# Altium integrated library NSC Amplifier.IntLib: 719 symbols (part 13 of 19)
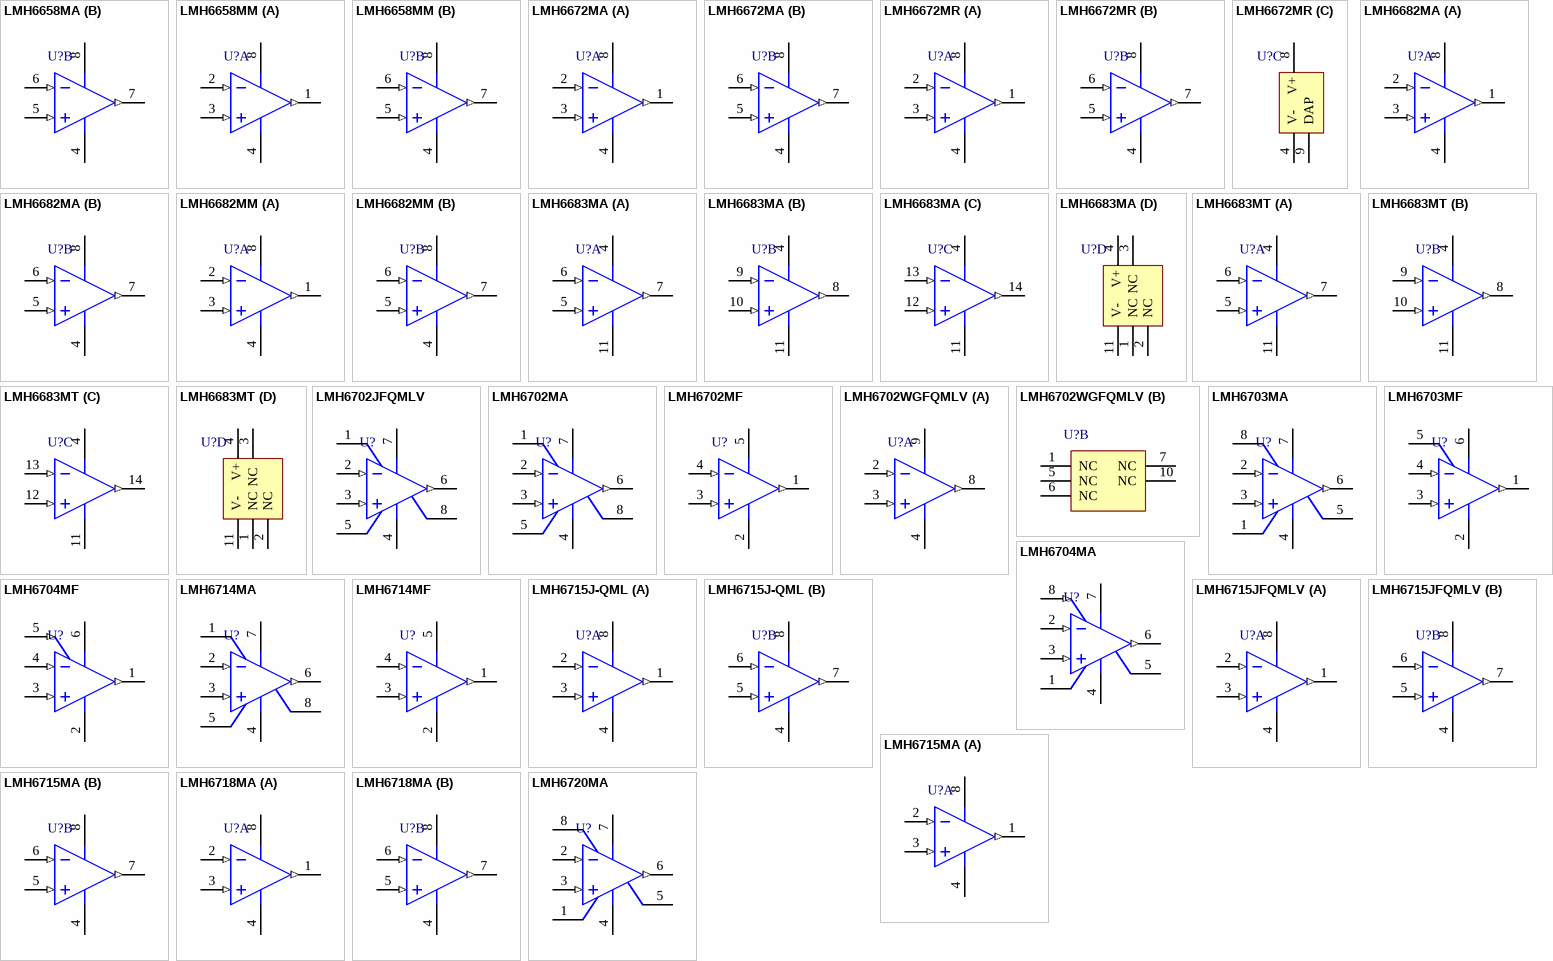
[diagram p50: symbols LMH6658MA to LMH6720MA]

## LMH6672MR
designator U?
Dual, High Output Current, High Speed Op Amp; PartNumber: LMH6672MR; Manufacturer: National Semiconductor; CompType: Amplifiers; PackageTopMarking: NSXYTT*LMH66*72MR; Published: 4-Dec-2008; LatestRevisionDate: 13-Jan-2009; LatestRevisionNote: Sim Model Added.; DatasheetVersion: Apr-2004; PackageVersion: revD, Dec-2007; PackageReference: MRA08A; Publisher: Altium Limited; PackageDescription: Molded, PSOP .193 x .154 x .058in, 8 Lead, .050in Pitch; RoHS: Y; PinCount: 8; DigiKeyPartNumber: LMH6672MR-ND; Code_JEDEC: MS-012-AA; ComponentLink1Description: LMH6672 Datasheet; ComponentLink1URL: http://www.national.com/ds/LM/LMH6672.pdf; ComponentLink2Description: LMH6672 Web Page; ComponentLink2URL: http://www.national.com/pf/LM/LMH6672.html; ComponentLink3Description: MRA08A Package Page; ComponentLink3URL: http://www.national.com/packaging/folders/mra08a.html
footprint MRA08A_N (SOIC, 8-Leads, Body 4.9x3.9mm, Pitch 1.27mm, Exposed Pad, IPC Medium Density)
footprint MRA08A_L (SOIC, 8-Leads, Body 4.9x3.9mm, Pitch 1.27mm, Exposed Pad, IPC High Density)
footprint MRA08A_M (SOIC, 8-Leads, Body 4.9x3.9mm, Pitch 1.27mm, Exposed Pad, IPC Low Density)
simulation model LMH6672 (SUBCKT)
pins on every part: 4 V- (power), 8 V+ (power)
part A pins: 1 OUTA (out), 2 INA- (in), 3 INA+ (in)
part B pins: 5 INB+ (in), 6 INB- (in), 7 OUTB (out)
part C pins: 9 DAP

## LMH6682MA
designator U?
190MHz Single Supply, Dual and Triple Operational Amplifiers; PartNumber: LMH6682MA; Manufacturer: National Semiconductor; PackageTopMarking: NSZXTT*LMH66*82MA; Published: 4-Dec-2008; DatasheetVersion: Nov-2002; PackageVersion: revL, Sep-2006; PackageReference: M08A; Publisher: Altium Limited; PackageDescription: SOIC Narrow, 4.9 x 3.9 x 1.45mm, 8 Lead, 1.27mm Pitch; CompType: Amplifiers; RoHS: Y; PinCount: 8; DigiKeyPartNumber: LMH6682MA-ND; Code_JEDEC: MS-012-AA; Code_IPC: SOIC127P600-8; ComponentLink1Description: LMH6682 Datasheet; ComponentLink1URL: http://www.national.com/ds/LM/LMH6682.pdf; ComponentLink2Description: LMH6682 Web Page; ComponentLink2URL: http://www.national.com/pf/LM/LMH6682.html; ComponentLink3Description: M08A Package Page; ComponentLink3URL: http://www.national.com/packaging/folders/m08a.html
footprint M08A_N (SOIC, 8-Leads, Body 4.9x3.9mm, Pitch 1.27mm, IPC Medium Density)
footprint M08A_L (SOIC, 8-Leads, Body 4.9x3.9mm, Pitch 1.27mm, IPC High Density)
footprint M08A_M (SOIC, 8-Leads, Body 4.9x3.9mm, Pitch 1.27mm, IPC Low Density)
pins on every part: 4 V- (power), 8 V+ (power)
part A pins: 1 OUTA (out), 2 INA- (in), 3 INA+ (in)
part B pins: 5 INB+ (in), 6 INB- (in), 7 OUTB (out)

## LMH6682MM
designator U?
190MHz Single Supply, Dual and Triple Operational Amplifiers; PartNumber: LMH6682MM; Manufacturer: National Semiconductor; PackageTopMarking: ZXTT*A90A; Published: 4-Dec-2008; DatasheetVersion: Nov-2002; PackageVersion: revF, Apr-2008; PackageReference: MUA08A; Publisher: Altium Limited; PackageDescription: MINI SOIC, .118 x .118 x .034in, 8 Lead, .0256in Pitch; CompType: Amplifiers; RoHS: Y; PinCount: 8; DigiKeyPartNumber: LMH6682MMCT-ND; Code_JEDEC: MO-187-AA; ComponentLink1Description: LMH6682 Datasheet; ComponentLink1URL: http://www.national.com/ds/LM/LMH6682.pdf; ComponentLink2Description: LMH6682 Web Page; ComponentLink2URL: http://www.national.com/pf/LM/LMH6682.html; ComponentLink3Description: MUA08A Package Page; ComponentLink3URL: http://www.national.com/packaging/folders/mua08a.html
footprint MUA08A_N (TSOP, 8-Leads, Body 3x3mm, Pitch 0.65mm, IPC Medium Density)
footprint MUA08A_L (TSOP, 8-Leads, Body 3x3mm, Pitch 0.65mm, IPC High Density)
footprint MUA08A_M (TSOP, 8-Leads, Body 3x3mm, Pitch 0.65mm, IPC Low Density)
pins on every part: 4 V- (power), 8 V+ (power)
part A pins: 1 OUTA (out), 2 INA- (in), 3 INA+ (in)
part B pins: 5 INB+ (in), 6 INB- (in), 7 OUTB (out)

## LMH6683MA
designator U?
190MHz Single Supply, Dual and Triple Operational Amplifiers; PartNumber: LMH6683MA; Manufacturer: National Semiconductor; PackageTopMarking: NSUZXYTT*LMH66*83MA; Published: 4-Dec-2008; DatasheetVersion: Nov-2002; PackageVersion: revJ, Jan-1996; PackageReference: M14A; Publisher: Altium Limited; PackageDescription: Molded Package S.O., .150in Wide, 14 Lead; CompType: Amplifiers; RoHS: Y; PinCount: 14; DigiKeyPartNumber: LMH6683MA-ND; Code_JEDEC: MS-012AB; Code_IPC: SOIC127P600-14; ComponentLink1Description: LMH6683 Datasheet; ComponentLink1URL: http://www.national.com/ds/LM/LMH6683.pdf; ComponentLink2Description: LMH6683 Web Page; ComponentLink2URL: http://www.national.com/pf/LM/LMH6683.html; ComponentLink3Description: M14A Package Page; ComponentLink3URL: http://www.national.com/packaging/folders/m14a.html
footprint M14A_N (SOIC, 14-Leads, Body 8.6x3.9mm, Pitch 1.27mm, IPC Medium Density)
footprint M14A_L (SOIC, 14-Leads, Body 8.6x3.9mm, Pitch 1.27mm, IPC High Density)
footprint M14A_M (SOIC, 14-Leads, Body 8.6x3.9mm, Pitch 1.27mm, IPC Low Density)
pins on every part: 4 V+ (power), 11 V- (power)
part A pins: 5 IN1+ (in), 6 IN1- (in), 7 OUT1 (out)
part B pins: 8 OUT2 (out), 9 IN2- (in), 10 IN2+ (in)
part C pins: 12 IN3+ (in), 13 IN3- (in), 14 OUT3 (out)
part D pins: 1 NC, 2 NC, 3 NC

## LMH6683MT
designator U?
190MHz Single Supply, Dual and Triple Operational Amplifiers; PartNumber: LMH6683MT; Manufacturer: National Semiconductor; PackageTopMarking: NSZXYTT*LMH66*83MT; Published: 4-Dec-2008; DatasheetVersion: Nov-2002; PackageVersion: revD, Jun-2003; PackageReference: MTC14; Publisher: Altium Limited; PackageDescription: Molded TSSOP, JEDEC, 5 x 4.4 x 0.9mm Body, 14 Lead, 0.65mm Pitch; CompType: Amplifiers; RoHS: Y; PinCount: 14; DigiKeyPartNumber: LMH6683MT-ND; Code_JEDEC: MO-153-AB-1; ComponentLink1Description: LMH6683 Datasheet; ComponentLink1URL: http://www.national.com/ds/LM/LMH6683.pdf; ComponentLink2Description: LMH6683 Web Page; ComponentLink2URL: http://www.national.com/pf/LM/LMH6683.html; ComponentLink3Description: MTC14 Package Page; ComponentLink3URL: http://www.national.com/packaging/folders/mtc14.html
footprint MTC14_N (TSOP, 14-Leads, Body 5x4.4mm, Pitch 0.65mm, IPC Medium Density)
footprint MTC14_L (TSOP, 14-Leads, Body 5x4.4mm, Pitch 0.65mm, IPC High Density)
footprint MTC14_M (TSOP, 14-Leads, Body 5x4.4mm, Pitch 0.65mm, IPC Low Density)
pins on every part: 4 V+ (power), 11 V- (power)
part A pins: 5 IN1+ (in), 6 IN1- (in), 7 OUT1 (out)
part B pins: 8 OUT2 (out), 9 IN2- (in), 10 IN2+ (in)
part C pins: 12 IN3+ (in), 13 IN3- (in), 14 OUT3 (out)
part D pins: 1 NC, 2 NC, 3 NC

## LMH6702JFQMLV
designator U?
1.7 GHz, Ultra Low Distortion, Wideband Op Amp; PartNumber: LMH6702JFQMLV; Manufacturer: National Semiconductor; CompType: Amplifiers; PackageTopMarking: NSZSSXXYYA*LMH6702JF*QV Q 5962F*0254601VPA; MilaeroCode: DXX; Published: 4-Dec-2008; DatasheetVersion: Nov-2005; PackageVersion: revM, Jul-2002; PackageReference: J08A; Publisher: Altium Limited; PackageDescription: Cerdip, .400 x .310in Body, 8 Lead, .300in Centers, .100in Pitch; RoHS: N; PinCount: 8; ComponentLink1Description: LMH6702QML Datasheet; ComponentLink1URL: http://www.national.com/ds/LM/LMH6702QML.pdf; ComponentLink2Description: LMH6702 Web Page; ComponentLink2URL: http://www.national.com/pf/LM/LMH6702.html; ComponentLink3Description: J08A Package Page; ComponentLink3URL: http://www.national.com/packaging/folders/j08a.html
footprint J08A (DIP, 8-Leads, Row Spacing 7.62mm, Pitch 2.54mm, Body 9.78x6.73mm)
pins: 1 NC, 2 IN- (in), 3 IN+ (in), 4 V- (power), 5 NC, 6 OUT (out), 7 V+ (power), 8 NC

## LMH6702MA
designator U?
1.7 GHz, Ultra Low Distortion, Wideband Op Amp; PartNumber: LMH6702MA; Manufacturer: National Semiconductor; CompType: Amplifiers; PackageTopMarking: NSZXTT*LMH67*02MA; Published: 4-Dec-2008; LatestRevisionDate: 13-Jan-2009; LatestRevisionNote: Sim Model Added.; DatasheetVersion: May-2005; PackageVersion: revL, Sep-2006; PackageReference: M08A; Publisher: Altium Limited; PackageDescription: SOIC Narrow, 4.9 x 3.9 x 1.45mm, 8 Lead, 1.27mm Pitch; RoHS: O; PinCount: 8; DigiKeyPartNumber: LMH6702MA-ND; Code_JEDEC: MS-012-AA; Code_IPC: SOIC127P600-8; ComponentLink1Description: LMH6702 Datasheet; ComponentLink1URL: http://www.national.com/ds/LM/LMH6702.pdf; ComponentLink2Description: LMH6702 Web Page; ComponentLink2URL: http://www.national.com/pf/LM/LMH6702.html; ComponentLink3Description: M08A Package Page; ComponentLink3URL: http://www.national.com/packaging/folders/m08a.html
footprint M08A_N (SOIC, 8-Leads, Body 4.9x3.9mm, Pitch 1.27mm, IPC Medium Density)
footprint M08A_L (SOIC, 8-Leads, Body 4.9x3.9mm, Pitch 1.27mm, IPC High Density)
footprint M08A_M (SOIC, 8-Leads, Body 4.9x3.9mm, Pitch 1.27mm, IPC Low Density)
simulation model LMH6702 (SUBCKT)
pins: 1 NC, 2 IN- (in), 3 IN+ (in), 4 V- (power), 5 NC, 6 OUT (out), 7 V+ (power), 8 NC

## LMH6702MF
designator U?
1.7 GHz, Ultra Low Distortion, Wideband Op Amp; PartNumber: LMH6702MF; Manufacturer: National Semiconductor; CompType: Amplifiers; PackageTopMarking: A83A*XTT; Published: 4-Dec-2008; LatestRevisionDate: 13-Jan-2009; LatestRevisionNote: Sim Model Added.; DatasheetVersion: May-2005; PackageVersion: revD, Aug-2008; PackageReference: MF05A; Publisher: Altium Limited; PackageDescription: Molded SOT-23, .115 x .063 x .040 in Body, 5 Lead, .0375 in Pitch; RoHS: O; PinCount: 5; DigiKeyPartNumber: LMH6702MFCT-ND; Code_IPC: SOT23-5; ComponentLink1Description: LMH6702 Datasheet; ComponentLink1URL: http://www.national.com/ds/LM/LMH6702.pdf; ComponentLink2Description: LMH6702 Web Page; ComponentLink2URL: http://www.national.com/pf/LM/LMH6702.html; ComponentLink3Description: MF05A Package Page; ComponentLink3URL: http://www.national.com/packaging/folders/mf05a.html
footprint MF05A_N (SOT23, 5-Leads, Body 2.9x1.6mm, Pitch 0.95mm, Lead Span 2.8mm, IPC Medium Density)
footprint MF05A_L (SOT23, 5-Leads, Body 2.9x1.6mm, Pitch 0.95mm, Lead Span 2.8mm, IPC High Density)
footprint MF05A_M (SOT23, 5-Leads, Body 2.9x1.6mm, Pitch 0.95mm, Lead Span 2.8mm, IPC Low Density)
simulation model LMH6702 (SUBCKT)
pins: 1 OUT (out), 2 V- (power), 3 IN+ (in), 4 IN- (in), 5 V+ (power)

## LMH6702WGFQMLV
designator U?
1.7 GHz, Ultra Low Distortion, Wideband Op Amp; PartNumber: LMH6702WGFQMLV; Manufacturer: National Semiconductor; CompType: Amplifiers; PackageTopMarking: NS5962F02*54601VZA*LMH6702*WGFQV Q*ZSSXXYYA; MilaeroCode: DXX; Published: 4-Dec-2008; DatasheetVersion: Nov-2005; PackageVersion: revF, Oct-2008; PackageReference: WG10A; Publisher: Altium Limited; PackageDescription: Cerpack, .270 x .241 x .070in, 10 Lead, .050in Pitch, Gull Wing; RoHS: N; PinCount: 10; ComponentLink1Description: LMH6702QML Datasheet; ComponentLink1URL: http://www.national.com/ds/LM/LMH6702QML.pdf; ComponentLink2Description: LMH6702 Web Page; ComponentLink2URL: http://www.national.com/pf/LM/LMH6702.html; ComponentLink3Description: WG10A Package Page; ComponentLink3URL: http://www.national.com/packaging/folders/wg10a.html
footprint WG10A_N (CERPACK, 10-Leads, Body 6.9x6.3mm, Pitch 1.27mm, IPC Medium Density)
footprint WG10A_L (CERPACK, 10-Leads, Body 6.9x6.3mm, Pitch 1.27mm, IPC High Density)
footprint WG10A_M (CERPACK, 10-Leads, Body 6.9x6.3mm, Pitch 1.27mm, IPC Low Density)
part A pins: 2 IN- (in), 3 IN+ (in), 4 V- (power), 8 OUT (out), 9 V+ (power)
part B pins: 1 NC, 5 NC, 6 NC, 7 NC, 10 NC

## LMH6703MA
designator U?
1.2 GHz, Low Distortion Op Amp with Shutdown; PartNumber: LMH6703MA; Manufacturer: National Semiconductor; CompType: Amplifiers; PackageTopMarking: NSZXTT*LMH67*03MA; Published: 4-Dec-2008; LatestRevisionDate: 13-Jan-2009; LatestRevisionNote: Sim Model Added.; DatasheetVersion: May-2005; PackageVersion: revL, Sep-2006; PackageReference: M08A; Publisher: Altium Limited; PackageDescription: SOIC Narrow, 4.9 x 3.9 x 1.45mm, 8 Lead, 1.27mm Pitch; RoHS: Y; PinCount: 8; DigiKeyPartNumber: LMH6703MA-ND; Code_JEDEC: MS-012-AA; Code_IPC: SOIC127P600-8; ComponentLink1Description: LMH6703 Datasheet; ComponentLink1URL: http://www.national.com/ds/LM/LMH6703.pdf; ComponentLink2Description: LMH6703 Web Page; ComponentLink2URL: http://www.national.com/pf/LM/LMH6703.html; ComponentLink3Description: M08A Package Page; ComponentLink3URL: http://www.national.com/packaging/folders/m08a.html
footprint M08A_N (SOIC, 8-Leads, Body 4.9x3.9mm, Pitch 1.27mm, IPC Medium Density)
footprint M08A_L (SOIC, 8-Leads, Body 4.9x3.9mm, Pitch 1.27mm, IPC High Density)
footprint M08A_M (SOIC, 8-Leads, Body 4.9x3.9mm, Pitch 1.27mm, IPC Low Density)
simulation model LMH6703C (SUBCKT)
pins: 1 NC, 2 IN- (in), 3 IN+ (in), 4 V- (power), 5 NC, 6 OUT (out), 7 V+ (power), 8 ~{SD}

## LMH6703MF
designator U?
1.2 GHz, Low Distortion Op Amp with Shutdown; PartNumber: LMH6703MF; Manufacturer: National Semiconductor; CompType: Amplifiers; PackageTopMarking: AR1A*XTT; Published: 4-Dec-2008; LatestRevisionDate: 13-Jan-2009; LatestRevisionNote: Sim Model Added.; DatasheetVersion: May-2005; PackageVersion: revC, Sep-2005; PackageReference: MF06A; Publisher: Altium Limited; PackageDescription: Molded SOT-23, .115 x .063 x .040in Body, 6 Lead, .0375in in Pitch; RoHS: Y; PinCount: 6; DigiKeyPartNumber: LMH6703MFCT-ND; Code_JEDEC: MO-178-AB; Code_IPC: SOT26A-6; ComponentLink1Description: LMH6703 Datasheet; ComponentLink1URL: http://www.national.com/ds/LM/LMH6703.pdf; ComponentLink2Description: LMH6703 Web Page; ComponentLink2URL: http://www.national.com/pf/LM/LMH6703.html; ComponentLink3Description: MF06A Package Page; ComponentLink3URL: http://www.national.com/packaging/folders/mf06a.html
footprint MF06A_N (SOT23, 6-Leads, Body 2.9x1.6mm, Pitch 0.95mm, Lead Span 2.8mm, IPC Medium Density)
footprint MF06A_L (SOT23, 6-Leads, Body 2.9x1.6mm, Pitch 0.95mm, Lead Span 2.8mm, IPC High Density)
footprint MF06A_M (SOT23, 6-Leads, Body 2.9x1.6mm, Pitch 0.95mm, Lead Span 2.8mm, IPC Low Density)
simulation model LMH6703T (SUBCKT)
pins: 1 OUT (out), 2 V- (power), 3 IN+ (in), 4 IN- (in), 5 ~{SD}, 6 V+ (power)

## LMH6704MA
designator U?
650 MHz Selectable Gain Buffer with Disable; PartNumber: LMH6704MA; Manufacturer: National Semiconductor; CompType: Amplifiers; PackageTopMarking: NSZXTT*LMH67*04MA; Published: 4-Dec-2008; DatasheetVersion: Sep-2006; PackageVersion: revL, Sep-2006; PackageReference: M08A; Publisher: Altium Limited; PackageDescription: SOIC Narrow, 4.9 x 3.9 x 1.45mm, 8 Lead, 1.27mm Pitch; RoHS: Y; PinCount: 8; DigiKeyPartNumber: LMH6704MA-ND; Code_JEDEC: MS-012-AA; Code_IPC: SOIC127P600-8; ComponentLink1Description: LMH6704 Datasheet; ComponentLink1URL: http://www.national.com/ds/LM/LMH6704.pdf; ComponentLink2Description: LMH6704 Web Page; ComponentLink2URL: http://www.national.com/pf/LM/LMH6704.html; ComponentLink3Description: M08A Package Page; ComponentLink3URL: http://www.national.com/packaging/folders/m08a.html
footprint M08A_N (SOIC, 8-Leads, Body 4.9x3.9mm, Pitch 1.27mm, IPC Medium Density)
footprint M08A_L (SOIC, 8-Leads, Body 4.9x3.9mm, Pitch 1.27mm, IPC High Density)
footprint M08A_M (SOIC, 8-Leads, Body 4.9x3.9mm, Pitch 1.27mm, IPC Low Density)
pins: 1 NC, 2 IN- (in), 3 IN+ (in), 4 VS- (power), 5 NC, 6 OUT (out), 7 VS+ (power), 8 ~{DIS} (in)

## LMH6704MF
designator U?
650 MHz Selectable Gain Buffer with Disable; PartNumber: LMH6704MF; Manufacturer: National Semiconductor; CompType: Amplifiers; PackageTopMarking: B07A*XTT; Published: 4-Dec-2008; DatasheetVersion: Sep-2006; PackageVersion: revC, Sep-2005; PackageReference: MF06A; Publisher: Altium Limited; PackageDescription: Molded SOT-23, .115 x .063 x .040in Body, 6 Lead, .0375in in Pitch; RoHS: O; PinCount: 6; DigiKeyPartNumber: LMH6704MFCT-ND; Code_JEDEC: MO-178-AB; Code_IPC: SOT26A-6; ComponentLink1Description: LMH6704 Datasheet; ComponentLink1URL: http://www.national.com/ds/LM/LMH6704.pdf; ComponentLink2Description: LMH6704 Web Page; ComponentLink2URL: http://www.national.com/pf/LM/LMH6704.html; ComponentLink3Description: MF06A Package Page; ComponentLink3URL: http://www.national.com/packaging/folders/mf06a.html
footprint MF06A_N (SOT23, 6-Leads, Body 2.9x1.6mm, Pitch 0.95mm, Lead Span 2.8mm, IPC Medium Density)
footprint MF06A_L (SOT23, 6-Leads, Body 2.9x1.6mm, Pitch 0.95mm, Lead Span 2.8mm, IPC High Density)
footprint MF06A_M (SOT23, 6-Leads, Body 2.9x1.6mm, Pitch 0.95mm, Lead Span 2.8mm, IPC Low Density)
pins: 1 OUT (out), 2 VS- (power), 3 IN+ (in), 4 IN- (in), 5 ~{DIS} (in), 6 VS+ (power)

## LMH6714MA
designator U?
Single Wideband Video Op Amp; PartNumber: LMH6714MA; Manufacturer: National Semiconductor; CompType: Amplifiers; PackageTopMarking: NSZXTT*LMH67*14MA; Published: 4-Dec-2008; LatestRevisionDate: 13-Jan-2009; LatestRevisionNote: Sim Model Added.; DatasheetVersion: Oct-2008; PackageVersion: revL, Sep-2006; PackageReference: M08A; Publisher: Altium Limited; PackageDescription: SOIC Narrow, 4.9 x 3.9 x 1.45mm, 8 Lead, 1.27mm Pitch; RoHS: O; PinCount: 8; DigiKeyPartNumber: LMH6714MA-ND; Code_JEDEC: MS-012-AA; Code_IPC: SOIC127P600-8; ComponentLink1Description: LMH6714 Datasheet; ComponentLink1URL: http://www.national.com/ds/LM/LMH6714.pdf; ComponentLink2Description: LMH6714 Web Page; ComponentLink2URL: http://www.national.com/pf/LM/LMH6714.html; ComponentLink3Description: M08A Package Page; ComponentLink3URL: http://www.national.com/packaging/folders/m08a.html
footprint M08A_N (SOIC, 8-Leads, Body 4.9x3.9mm, Pitch 1.27mm, IPC Medium Density)
footprint M08A_L (SOIC, 8-Leads, Body 4.9x3.9mm, Pitch 1.27mm, IPC High Density)
footprint M08A_M (SOIC, 8-Leads, Body 4.9x3.9mm, Pitch 1.27mm, IPC Low Density)
simulation model LMH6714 (SUBCKT)
pins: 1 NC, 2 IN- (in), 3 IN+ (in), 4 V- (power), 5 NC, 6 OUT (out), 7 V+ (power), 8 NC

## LMH6714MF
designator U?
Single Wideband Video Op Amp; PartNumber: LMH6714MF; Manufacturer: National Semiconductor; CompType: Amplifiers; PackageTopMarking: A95A*XTT; Published: 4-Dec-2008; LatestRevisionDate: 13-Jan-2009; LatestRevisionNote: Sim Model Added.; DatasheetVersion: Oct-2008; PackageVersion: revD, Aug-2008; PackageReference: MF05A; Publisher: Altium Limited; PackageDescription: Molded SOT-23, .115 x .063 x .040 in Body, 5 Lead, .0375 in Pitch; RoHS: O; PinCount: 5; DigiKeyPartNumber: LMH6714MFCT-ND; Code_IPC: SOT23-5; ComponentLink1Description: LMH6714 Datasheet; ComponentLink1URL: http://www.national.com/ds/LM/LMH6714.pdf; ComponentLink2Description: LMH6714 Web Page; ComponentLink2URL: http://www.national.com/pf/LM/LMH6714.html; ComponentLink3Description: MF05A Package Page; ComponentLink3URL: http://www.national.com/packaging/folders/mf05a.html
footprint MF05A_N (SOT23, 5-Leads, Body 2.9x1.6mm, Pitch 0.95mm, Lead Span 2.8mm, IPC Medium Density)
footprint MF05A_L (SOT23, 5-Leads, Body 2.9x1.6mm, Pitch 0.95mm, Lead Span 2.8mm, IPC High Density)
footprint MF05A_M (SOT23, 5-Leads, Body 2.9x1.6mm, Pitch 0.95mm, Lead Span 2.8mm, IPC Low Density)
simulation model LMH6714 (SUBCKT)
pins: 1 OUT (out), 2 V- (power), 3 IN+ (in), 4 IN- (in), 5 V+ (power)

## LMH6715J-QML
designator U?
Dual Wideband Video Op Amp; PartNumber: LMH6715J-QML; Manufacturer: National Semiconductor; CompType: Amplifiers; PackageTopMarking: NSZSSXXYYA*LMH6715J-*QML 5962-*0254701QPA Q; MilaeroCode: B88; Published: 4-Dec-2008; LatestRevisionDate: 13-Jan-2009; LatestRevisionNote: Sim Model Added.; DatasheetVersion: Jan-2003; PackageVersion: revM, Jul-2002; PackageReference: J08A; Publisher: Altium Limited; PackageDescription: Cerdip, .400 x .310in Body, 8 Lead, .300in Centers, .100in Pitch; RoHS: N; PinCount: 8; ComponentLink1Description: LMH6715 Datasheet; ComponentLink1URL: http://www.national.com/ds/LM/LMH6715.pdf; ComponentLink2Description: LMH6715 Web Page; ComponentLink2URL: http://www.national.com/pf/LM/LMH6715.html; ComponentLink3Description: J08A Package Page; ComponentLink3URL: http://www.national.com/packaging/folders/j08a.html
footprint J08A (DIP, 8-Leads, Row Spacing 7.62mm, Pitch 2.54mm, Body 9.78x6.73mm)
simulation model LMH6715 (SUBCKT)
pins on every part: 4 V- (power), 8 V+ (power)
part A pins: 1 OUT1 (out), 2 IN1- (in), 3 IN1+ (in)
part B pins: 5 IN2+ (in), 6 IN2- (in), 7 OUT2 (out)

## LMH6715JFQMLV
designator U?
Dual Wideband Video Op Amp; PartNumber: LMH6715JFQMLV; Manufacturer: National Semiconductor; CompType: Amplifiers; PackageTopMarking: NSZSSXXYYA*LMH6715JF*QV Q 5962F*0254701VPA; MilaeroCode: DXX; Published: 4-Dec-2008; LatestRevisionDate: 13-Jan-2009; LatestRevisionNote: Sim Model Added.; DatasheetVersion: Jan-2003; PackageVersion: revM, Jul-2002; PackageReference: J08A; Publisher: Altium Limited; PackageDescription: Cerdip, .400 x .310in Body, 8 Lead, .300in Centers, .100in Pitch; RoHS: N; PinCount: 8; ComponentLink1Description: LMH6715 Datasheet; ComponentLink1URL: http://www.national.com/ds/LM/LMH6715.pdf; ComponentLink2Description: LMH6715 Web Page; ComponentLink2URL: http://www.national.com/pf/LM/LMH6715.html; ComponentLink3Description: J08A Package Page; ComponentLink3URL: http://www.national.com/packaging/folders/j08a.html
footprint J08A (DIP, 8-Leads, Row Spacing 7.62mm, Pitch 2.54mm, Body 9.78x6.73mm)
simulation model LMH6715 (SUBCKT)
pins on every part: 4 V- (power), 8 V+ (power)
part A pins: 1 OUT1 (out), 2 IN1- (in), 3 IN1+ (in)
part B pins: 5 IN2+ (in), 6 IN2- (in), 7 OUT2 (out)

## LMH6715MA
designator U?
Dual Wideband Video Op Amp; PartNumber: LMH6715MA; Manufacturer: National Semiconductor; CompType: Amplifiers; PackageTopMarking: NSZXTT*LMH67*15MA; Published: 4-Dec-2008; LatestRevisionDate: 13-Jan-2009; LatestRevisionNote: Sim Model Added.; DatasheetVersion: Jan-2003; PackageVersion: revL, Sep-2006; PackageReference: M08A; Publisher: Altium Limited; PackageDescription: SOIC Narrow, 4.9 x 3.9 x 1.45mm, 8 Lead, 1.27mm Pitch; RoHS: Y; PinCount: 8; DigiKeyPartNumber: LMH6715MA-ND; Code_JEDEC: MS-012-AA; Code_IPC: SOIC127P600-8; ComponentLink1Description: LMH6715 Datasheet; ComponentLink1URL: http://www.national.com/ds/LM/LMH6715.pdf; ComponentLink2Description: LMH6715 Web Page; ComponentLink2URL: http://www.national.com/pf/LM/LMH6715.html; ComponentLink3Description: M08A Package Page; ComponentLink3URL: http://www.national.com/packaging/folders/m08a.html
footprint M08A_N (SOIC, 8-Leads, Body 4.9x3.9mm, Pitch 1.27mm, IPC Medium Density)
footprint M08A_L (SOIC, 8-Leads, Body 4.9x3.9mm, Pitch 1.27mm, IPC High Density)
footprint M08A_M (SOIC, 8-Leads, Body 4.9x3.9mm, Pitch 1.27mm, IPC Low Density)
simulation model LMH6715 (SUBCKT)
pins on every part: 4 V- (power), 8 V+ (power)
part A pins: 1 OUT1 (out), 2 IN1- (in), 3 IN1+ (in)
part B pins: 5 IN2+ (in), 6 IN2- (in), 7 OUT2 (out)

## LMH6718MA
designator U?
Dual, High Output, Selectable Gain Buffer; PartNumber: LMH6718MA; Manufacturer: National Semiconductor; CompType: Amplifiers; PackageTopMarking: NSZXTT*LMH67*18MA; Published: 4-Dec-2008; LatestRevisionDate: 13-Jan-2009; LatestRevisionNote: Sim Model Added.; DatasheetVersion: Sep-2006; PackageVersion: revL, Sep-2006; PackageReference: M08A; Publisher: Altium Limited; PackageDescription: SOIC Narrow, 4.9 x 3.9 x 1.45mm, 8 Lead, 1.27mm Pitch; RoHS: O; PinCount: 8; DigiKeyPartNumber: LMH6718MA-ND; Code_JEDEC: MS-012-AA; Code_IPC: SOIC127P600-8; ComponentLink1Description: LMH6718 Datasheet; ComponentLink1URL: http://www.national.com/ds/LM/LMH6718.pdf; ComponentLink2Description: LMH6718 Web Page; ComponentLink2URL: http://www.national.com/pf/LM/LMH6718.html; ComponentLink3Description: M08A Package Page; ComponentLink3URL: http://www.national.com/packaging/folders/m08a.html
footprint M08A_N (SOIC, 8-Leads, Body 4.9x3.9mm, Pitch 1.27mm, IPC Medium Density)
footprint M08A_L (SOIC, 8-Leads, Body 4.9x3.9mm, Pitch 1.27mm, IPC High Density)
footprint M08A_M (SOIC, 8-Leads, Body 4.9x3.9mm, Pitch 1.27mm, IPC Low Density)
simulation model LMH6718 (SUBCKT)
pins on every part: 4 VCC- (power), 8 VCC+ (power)
part A pins: 1 OUT1 (out), 2 IN1- (in), 3 IN1+ (in)
part B pins: 5 IN2+ (in), 6 IN2- (in), 7 OUT2 (out)

## LMH6720MA
designator U?
Single Wideband Video Op Amp with Shutdown; PartNumber: LMH6720MA; Manufacturer: National Semiconductor; CompType: Amplifiers; PackageTopMarking: NSZXTT*LMH67*20MA; Published: 4-Dec-2008; LatestRevisionDate: 13-Jan-2009; LatestRevisionNote: Sim Model Added.; DatasheetVersion: Oct-2008; PackageVersion: revL, Sep-2006; PackageReference: M08A; Publisher: Altium Limited; PackageDescription: SOIC Narrow, 4.9 x 3.9 x 1.45mm, 8 Lead, 1.27mm Pitch; RoHS: Y; PinCount: 8; DigiKeyPartNumber: LMH6720MA-ND; Code_JEDEC: MS-012-AA; Code_IPC: SOIC127P600-8; ComponentLink1Description: LMH6720 Datasheet; ComponentLink1URL: http://www.national.com/ds/LM/LMH6720.pdf; ComponentLink2Description: LMH6720 Web Page; ComponentLink2URL: http://www.national.com/pf/LM/LMH6720.html; ComponentLink3Description: M08A Package Page; ComponentLink3URL: http://www.national.com/packaging/folders/m08a.html
footprint M08A_N (SOIC, 8-Leads, Body 4.9x3.9mm, Pitch 1.27mm, IPC Medium Density)
footprint M08A_L (SOIC, 8-Leads, Body 4.9x3.9mm, Pitch 1.27mm, IPC High Density)
footprint M08A_M (SOIC, 8-Leads, Body 4.9x3.9mm, Pitch 1.27mm, IPC Low Density)
simulation model LMH6720 (SUBCKT)
pins: 1 NC, 2 IN- (in), 3 IN+ (in), 4 V- (power), 5 NC, 6 OUT (out), 7 V+ (power), 8 ~{SD}

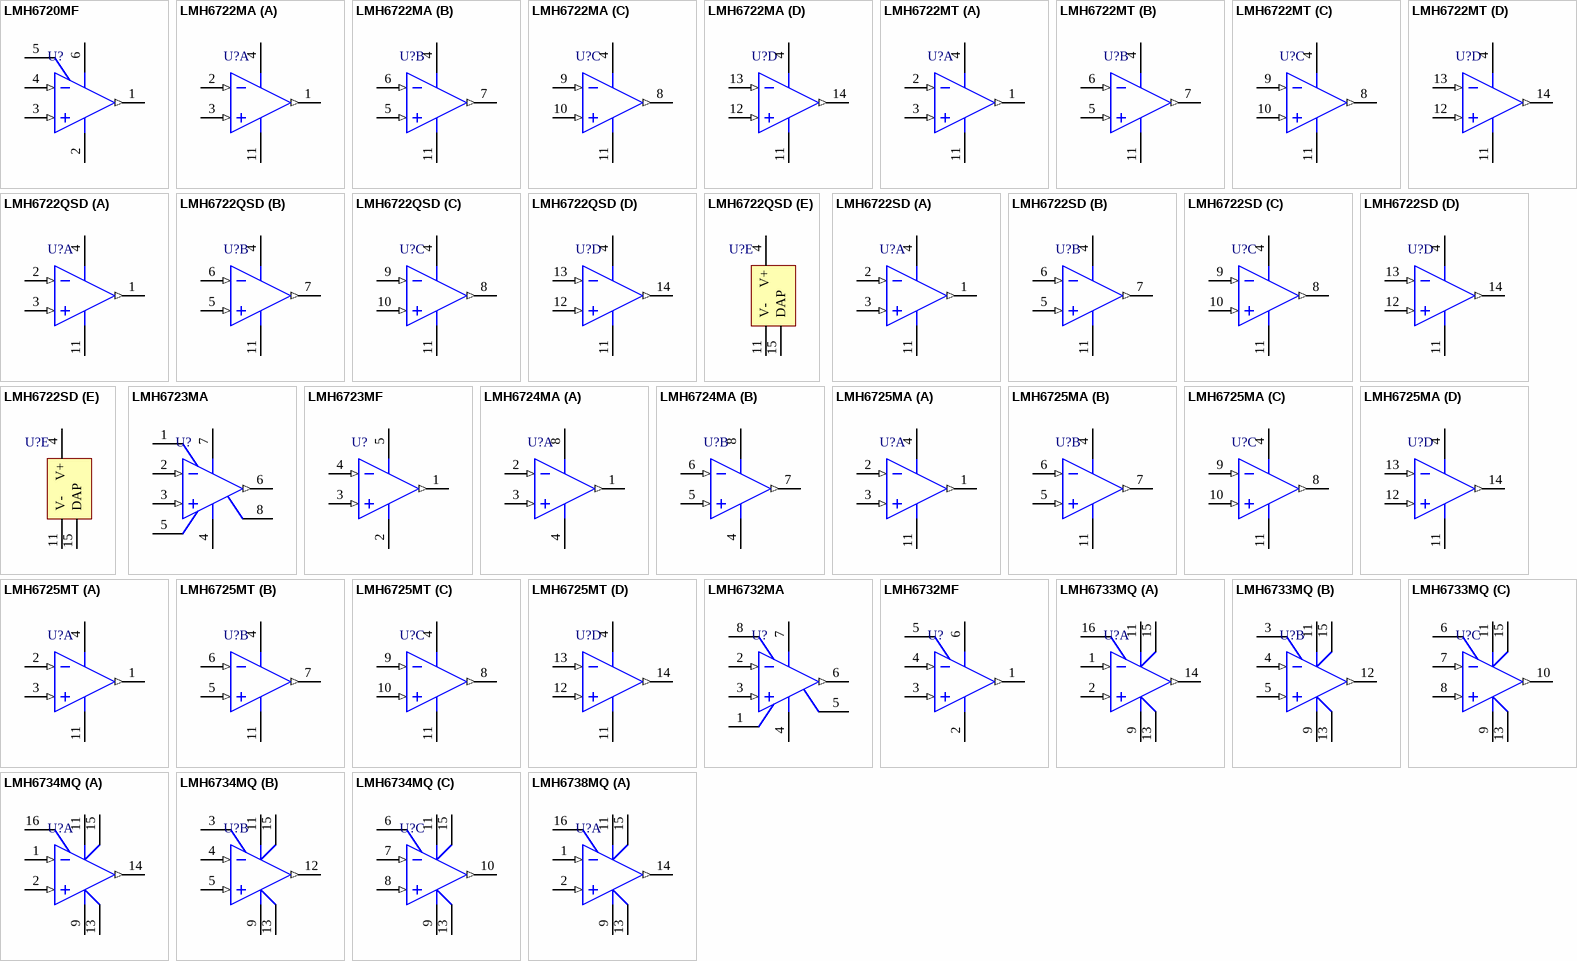
[diagram p28: symbols LMH6720MF to LMH6738MQ]

## LMH6720MF
designator U?
Single Wideband Video Op Amp with Shutdown; PartNumber: LMH6720MF; Manufacturer: National Semiconductor; CompType: Amplifiers; PackageTopMarking: A96A*XTT; Published: 4-Dec-2008; LatestRevisionDate: 13-Jan-2009; LatestRevisionNote: Sim Model Added.; DatasheetVersion: Oct-2008; PackageVersion: revC, Sep-2005; PackageReference: MF06A; Publisher: Altium Limited; PackageDescription: Molded SOT-23, .115 x .063 x .040in Body, 6 Lead, .0375in in Pitch; RoHS: Y; PinCount: 6; DigiKeyPartNumber: LMH6720MFCT-ND; Code_JEDEC: MO-178-AB; Code_IPC: SOT26A-6; ComponentLink1Description: LMH6720 Datasheet; ComponentLink1URL: http://www.national.com/ds/LM/LMH6720.pdf; ComponentLink2Description: LMH6720 Web Page; ComponentLink2URL: http://www.national.com/pf/LM/LMH6720.html; ComponentLink3Description: MF06A Package Page; ComponentLink3URL: http://www.national.com/packaging/folders/mf06a.html
footprint MF06A_N (SOT23, 6-Leads, Body 2.9x1.6mm, Pitch 0.95mm, Lead Span 2.8mm, IPC Medium Density)
footprint MF06A_L (SOT23, 6-Leads, Body 2.9x1.6mm, Pitch 0.95mm, Lead Span 2.8mm, IPC High Density)
footprint MF06A_M (SOT23, 6-Leads, Body 2.9x1.6mm, Pitch 0.95mm, Lead Span 2.8mm, IPC Low Density)
simulation model LMH6720 (SUBCKT)
pins: 1 OUT (out), 2 V- (power), 3 IN+ (in), 4 IN- (in), 5 ~{SD}, 6 V+ (power)

## LMH6722MA
designator U?
Quad Wideband Video Op Amp; PartNumber: LMH6722MA; Manufacturer: National Semiconductor; CompType: Amplifiers; PackageTopMarking: NSUZXYTT*LMH67*22MA; Published: 4-Dec-2008; LatestRevisionDate: 13-Jan-2009; LatestRevisionNote: Sim Model Added.; DatasheetVersion: Oct-2008; PackageVersion: revJ, Jan-1996; PackageReference: M14A; Publisher: Altium Limited; PackageDescription: Molded Package S.O., .150in Wide, 14 Lead; RoHS: O; PinCount: 14; DigiKeyPartNumber: LMH6722MA-ND; Code_JEDEC: MS-012AB; Code_IPC: SOIC127P600-14; ComponentLink1Description: LMH6722 Datasheet; ComponentLink1URL: http://www.national.com/ds/LM/LMH6722.pdf; ComponentLink2Description: LMH6722 Web Page; ComponentLink2URL: http://www.national.com/pf/LM/LMH6722.html; ComponentLink3Description: M14A Package Page; ComponentLink3URL: http://www.national.com/packaging/folders/m14a.html
footprint M14A_N (SOIC, 14-Leads, Body 8.6x3.9mm, Pitch 1.27mm, IPC Medium Density)
footprint M14A_L (SOIC, 14-Leads, Body 8.6x3.9mm, Pitch 1.27mm, IPC High Density)
footprint M14A_M (SOIC, 14-Leads, Body 8.6x3.9mm, Pitch 1.27mm, IPC Low Density)
simulation model LMH6722 (SUBCKT)
pins on every part: 4 V+ (power), 11 V- (power)
part A pins: 1 OUTA (out), 2 INA- (in), 3 INA+ (in)
part B pins: 5 INB+ (in), 6 INB- (in), 7 OUTB (out)
part C pins: 8 OUTC (out), 9 INC- (in), 10 INC+ (in)
part D pins: 12 IND+ (in), 13 IND- (in), 14 OUTD (out)

## LMH6722MT
designator U?
Quad Wideband Video Op Amp; PartNumber: LMH6722MT; Manufacturer: National Semiconductor; CompType: Amplifiers; PackageTopMarking: NSUZXYTT*LMH67*22MT; Published: 4-Dec-2008; LatestRevisionDate: 13-Jan-2009; LatestRevisionNote: Sim Model Added.; DatasheetVersion: Oct-2008; PackageVersion: revD, Jun-2003; PackageReference: MTC14; Publisher: Altium Limited; PackageDescription: Molded TSSOP, JEDEC, 5 x 4.4 x 0.9mm Body, 14 Lead, 0.65mm Pitch; RoHS: Y; PinCount: 14; DigiKeyPartNumber: LMH6722MT-ND; Code_JEDEC: MO-153-AB-1; ComponentLink1Description: LMH6722 Datasheet; ComponentLink1URL: http://www.national.com/ds/LM/LMH6722.pdf; ComponentLink2Description: LMH6722 Web Page; ComponentLink2URL: http://www.national.com/pf/LM/LMH6722.html; ComponentLink3Description: MTC14 Package Page; ComponentLink3URL: http://www.national.com/packaging/folders/mtc14.html
footprint MTC14_N (TSOP, 14-Leads, Body 5x4.4mm, Pitch 0.65mm, IPC Medium Density)
footprint MTC14_L (TSOP, 14-Leads, Body 5x4.4mm, Pitch 0.65mm, IPC High Density)
footprint MTC14_M (TSOP, 14-Leads, Body 5x4.4mm, Pitch 0.65mm, IPC Low Density)
simulation model LMH6722 (SUBCKT)
pins on every part: 4 V+ (power), 11 V- (power)
part A pins: 1 OUTA (out), 2 INA- (in), 3 INA+ (in)
part B pins: 5 INB+ (in), 6 INB- (in), 7 OUTB (out)
part C pins: 8 OUTC (out), 9 INC- (in), 10 INC+ (in)
part D pins: 12 IND+ (in), 13 IND- (in), 14 OUTD (out)

## LMH6722QSD
designator U?
Quad Wideband Video Op Amp; PartNumber: LMH6722QSD; Manufacturer: National Semiconductor; CompType: Amplifiers; PackageTopMarking: ZXYTT*L6722Q; Published: 4-Dec-2008; DatasheetVersion: Oct-2008; PackageVersion: revA, Jun-2003; PackageReference: SDA14A; Publisher: Altium Limited; PackageDescription: LLP, Plastic, Dual, 4 x 3 x 0.8mm Body, 14 Lead, 0.5mm Pitch, No Pullback; RoHS: Y; PinCount: 14; ComponentLink1Description: LMH6722Q Datasheet; ComponentLink1URL: http://www.national.com/ds/LM/LMH6722.pdf; ComponentLink2Description: LMH6722Q Web Page; ComponentLink2URL: http://www.national.com/pf/LM/LMH6722Q.html; ComponentLink3Description: SDA14A Package Page; ComponentLink3URL: http://www.national.com/packaging/folders/sda14a.html
footprint SDA14A (SON, 14-Leads, Body 4x3mm, Pitch 0.5mm, NSC Recommended)
pins on every part: 4 V+ (power), 11 V- (power)
part A pins: 1 OUTA (out), 2 INA- (in), 3 INA+ (in)
part B pins: 5 INB+ (in), 6 INB- (in), 7 OUTB (out)
part C pins: 8 OUTC (out), 9 INC- (in), 10 INC+ (in)
part D pins: 12 IND+ (in), 13 IND- (in), 14 OUTD (out)
part E pins: 15 DAP

## LMH6722SD
designator U?
Quad Wideband Video Op Amp; PartNumber: LMH6722SD; Manufacturer: National Semiconductor; CompType: Amplifiers; PackageTopMarking: ZXYTT*L6722; Published: 4-Dec-2008; DatasheetVersion: Oct-2008; PackageVersion: revA, Jun-2003; PackageReference: SDA14A; Publisher: Altium Limited; PackageDescription: LLP, Plastic, Dual, 4 x 3 x 0.8mm Body, 14 Lead, 0.5mm Pitch, No Pullback; RoHS: Y; PinCount: 14; ComponentLink1Description: LMH6722 Datasheet; ComponentLink1URL: http://www.national.com/ds/LM/LMH6722.pdf; ComponentLink2Description: LMH6722 Web Page; ComponentLink2URL: http://www.national.com/pf/LM/LMH6722.html; ComponentLink3Description: SDA14A Package Page; ComponentLink3URL: http://www.national.com/packaging/folders/sda14a.html
footprint SDA14A (SON, 14-Leads, Body 4x3mm, Pitch 0.5mm, NSC Recommended)
pins on every part: 4 V+ (power), 11 V- (power)
part A pins: 1 OUTA (out), 2 INA- (in), 3 INA+ (in)
part B pins: 5 INB+ (in), 6 INB- (in), 7 OUTB (out)
part C pins: 8 OUTC (out), 9 INC- (in), 10 INC+ (in)
part D pins: 12 IND+ (in), 13 IND- (in), 14 OUTD (out)
part E pins: 15 DAP

## LMH6723MA
designator U?
Single/Quad 370 MHz 1 mA Current Feedback Op Amp; PartNumber: LMH6723MA; Manufacturer: National Semiconductor; CompType: Amplifiers; PackageTopMarking: NSZXTT*LMH67*23MA; Published: 4-Dec-2008; LatestRevisionDate: 13-Jan-2009; LatestRevisionNote: Sim Model Added.; DatasheetVersion: Aug-2005; PackageVersion: revL, Sep-2006; PackageReference: M08A; Publisher: Altium Limited; PackageDescription: SOIC Narrow, 4.9 x 3.9 x 1.45mm, 8 Lead, 1.27mm Pitch; RoHS: O; PinCount: 8; DigiKeyPartNumber: LMH6723MA-ND; Code_JEDEC: MS-012-AA; Code_IPC: SOIC127P600-8; ComponentLink1Description: LMH6723 Datasheet; ComponentLink1URL: http://www.national.com/ds/LM/LMH6723.pdf; ComponentLink2Description: LMH6723 Web Page; ComponentLink2URL: http://www.national.com/pf/LM/LMH6723.html; ComponentLink3Description: M08A Package Page; ComponentLink3URL: http://www.national.com/packaging/folders/m08a.html
footprint M08A_N (SOIC, 8-Leads, Body 4.9x3.9mm, Pitch 1.27mm, IPC Medium Density)
footprint M08A_L (SOIC, 8-Leads, Body 4.9x3.9mm, Pitch 1.27mm, IPC High Density)
footprint M08A_M (SOIC, 8-Leads, Body 4.9x3.9mm, Pitch 1.27mm, IPC Low Density)
simulation model LMH6723 (SUBCKT)
pins: 1 NC, 2 IN- (in), 3 IN+ (in), 4 V- (power), 5 NC, 6 OUT (out), 7 V+ (power), 8 NC

## LMH6723MF
designator U?
Single/Quad 370 MHz 1 mA Current Feedback Op Amp; PartNumber: LMH6723MF; Manufacturer: National Semiconductor; CompType: Amplifiers; PackageTopMarking: AB1A*XTT; Published: 4-Dec-2008; LatestRevisionDate: 13-Jan-2009; LatestRevisionNote: Sim Model Added.; DatasheetVersion: Aug-2005; PackageVersion: revD, Aug-2008; PackageReference: MF05A; Publisher: Altium Limited; PackageDescription: Molded SOT-23, .115 x .063 x .040 in Body, 5 Lead, .0375 in Pitch; RoHS: Y; PinCount: 5; DigiKeyPartNumber: LMH6723MFCT-ND; Code_IPC: SOT23-5; ComponentLink1Description: LMH6723 Datasheet; ComponentLink1URL: http://www.national.com/ds/LM/LMH6723.pdf; ComponentLink2Description: LMH6723 Web Page; ComponentLink2URL: http://www.national.com/pf/LM/LMH6723.html; ComponentLink3Description: MF05A Package Page; ComponentLink3URL: http://www.national.com/packaging/folders/mf05a.html
footprint MF05A_N (SOT23, 5-Leads, Body 2.9x1.6mm, Pitch 0.95mm, Lead Span 2.8mm, IPC Medium Density)
footprint MF05A_L (SOT23, 5-Leads, Body 2.9x1.6mm, Pitch 0.95mm, Lead Span 2.8mm, IPC High Density)
footprint MF05A_M (SOT23, 5-Leads, Body 2.9x1.6mm, Pitch 0.95mm, Lead Span 2.8mm, IPC Low Density)
simulation model LMH6723 (SUBCKT)
pins: 1 OUT (out), 2 V- (power), 3 IN+ (in), 4 IN- (in), 5 V+ (power)

## LMH6724MA
designator U?
Single/Dual/Quad 370 MHz 1 mA Current Feedback Op Amp; PartNumber: LMH6724MA; Manufacturer: National Semiconductor; CompType: Amplifiers; PackageTopMarking: NSZXTT*LMH67*24MA; Published: 4-Dec-2008; LatestRevisionDate: 13-Jan-2009; LatestRevisionNote: Sim Model Added.; DatasheetVersion: Aug-2005; PackageVersion: revL, Sep-2006; PackageReference: M08A; Publisher: Altium Limited; PackageDescription: SOIC Narrow, 4.9 x 3.9 x 1.45mm, 8 Lead, 1.27mm Pitch; RoHS: Y; PinCount: 8; DigiKeyPartNumber: LMH6724MA-ND; Code_JEDEC: MS-012-AA; Code_IPC: SOIC127P600-8; ComponentLink1Description: LMH6724 Datasheet; ComponentLink1URL: http://www.national.com/ds/LM/LMH6724.pdf; ComponentLink2Description: LMH6724 Web Page; ComponentLink2URL: http://www.national.com/pf/LM/LMH6724.html; ComponentLink3Description: M08A Package Page; ComponentLink3URL: http://www.national.com/packaging/folders/m08a.html
footprint M08A_N (SOIC, 8-Leads, Body 4.9x3.9mm, Pitch 1.27mm, IPC Medium Density)
footprint M08A_L (SOIC, 8-Leads, Body 4.9x3.9mm, Pitch 1.27mm, IPC High Density)
footprint M08A_M (SOIC, 8-Leads, Body 4.9x3.9mm, Pitch 1.27mm, IPC Low Density)
simulation model LMH6723 (SUBCKT)
pins on every part: 4 V- (power), 8 V+ (power)
part A pins: 1 OUTA (out), 2 INA- (in), 3 INA+ (in)
part B pins: 5 INB+ (in), 6 INB- (in), 7 OUTB (out)

## LMH6725MA
designator U?
Single/Quad 370 MHz 1 mA Current Feedback Op Amp; PartNumber: LMH6725MA; Manufacturer: National Semiconductor; CompType: Amplifiers; PackageTopMarking: NSUZXYTT*LMH67*25MA; Published: 4-Dec-2008; LatestRevisionDate: 13-Jan-2009; LatestRevisionNote: Sim Model Added.; DatasheetVersion: Aug-2005; PackageVersion: revJ, Jan-1996; PackageReference: M14A; Publisher: Altium Limited; PackageDescription: Molded Package S.O., .150in Wide, 14 Lead; RoHS: Y; PinCount: 14; DigiKeyPartNumber: LMH6725MA-ND; Code_JEDEC: MS-012AB; Code_IPC: SOIC127P600-14; ComponentLink1Description: LMH6725 Datasheet; ComponentLink1URL: http://www.national.com/ds/LM/LMH6725.pdf; ComponentLink2Description: LMH6725 Web Page; ComponentLink2URL: http://www.national.com/pf/LM/LMH6725.html; ComponentLink3Description: M14A Package Page; ComponentLink3URL: http://www.national.com/packaging/folders/m14a.html
footprint M14A_N (SOIC, 14-Leads, Body 8.6x3.9mm, Pitch 1.27mm, IPC Medium Density)
footprint M14A_L (SOIC, 14-Leads, Body 8.6x3.9mm, Pitch 1.27mm, IPC High Density)
footprint M14A_M (SOIC, 14-Leads, Body 8.6x3.9mm, Pitch 1.27mm, IPC Low Density)
simulation model LMH6723 (SUBCKT)
pins on every part: 4 V+ (power), 11 V- (power)
part A pins: 1 OUTA (out), 2 INA- (in), 3 INA+ (in)
part B pins: 5 INB+ (in), 6 INB- (in), 7 OUTB (out)
part C pins: 8 OUTC (out), 9 INC- (in), 10 INC+ (in)
part D pins: 12 IND+ (in), 13 IND- (in), 14 OUTD (out)

## LMH6725MT
designator U?
Single/Quad 370 MHz 1 mA Current Feedback Op Amp; PartNumber: LMH6725MT; Manufacturer: National Semiconductor; CompType: Amplifiers; PackageTopMarking: NSUZXYTT*LMH67*25MT; Published: 4-Dec-2008; LatestRevisionDate: 13-Jan-2009; LatestRevisionNote: Sim Model Added.; DatasheetVersion: Aug-2005; PackageVersion: revD, Jun-2003; PackageReference: MTC14; Publisher: Altium Limited; PackageDescription: Molded TSSOP, JEDEC, 5 x 4.4 x 0.9mm Body, 14 Lead, 0.65mm Pitch; RoHS: Y; PinCount: 14; DigiKeyPartNumber: LMH6725MT-ND; Code_JEDEC: MO-153-AB-1; ComponentLink1Description: LMH6725 Datasheet; ComponentLink1URL: http://www.national.com/ds/LM/LMH6725.pdf; ComponentLink2Description: LMH6725 Web Page; ComponentLink2URL: http://www.national.com/pf/LM/LMH6725.html; ComponentLink3Description: MTC14 Package Page; ComponentLink3URL: http://www.national.com/packaging/folders/mtc14.html
footprint MTC14_N (TSOP, 14-Leads, Body 5x4.4mm, Pitch 0.65mm, IPC Medium Density)
footprint MTC14_L (TSOP, 14-Leads, Body 5x4.4mm, Pitch 0.65mm, IPC High Density)
footprint MTC14_M (TSOP, 14-Leads, Body 5x4.4mm, Pitch 0.65mm, IPC Low Density)
simulation model LMH6723 (SUBCKT)
pins on every part: 4 V+ (power), 11 V- (power)
part A pins: 1 OUTA (out), 2 INA- (in), 3 INA+ (in)
part B pins: 5 INB+ (in), 6 INB- (in), 7 OUTB (out)
part C pins: 8 OUTC (out), 9 INC- (in), 10 INC+ (in)
part D pins: 12 IND+ (in), 13 IND- (in), 14 OUTD (out)

## LMH6732MA
designator U?
High Speed Op Amp with Adjustable Bandwidth; PartNumber: LMH6732MA; Manufacturer: National Semiconductor; CompType: Amplifiers; PackageTopMarking: NSZXTT*LMH67*32MA; Published: 4-Dec-2008; DatasheetVersion: Mar-2004; PackageVersion: revL, Sep-2006; PackageReference: M08A; Publisher: Altium Limited; PackageDescription: SOIC Narrow, 4.9 x 3.9 x 1.45mm, 8 Lead, 1.27mm Pitch; RoHS: O; PinCount: 8; DigiKeyPartNumber: LMH6732MA-ND; Code_JEDEC: MS-012-AA; Code_IPC: SOIC127P600-8; ComponentLink1Description: LMH6732 Datasheet; ComponentLink1URL: http://www.national.com/ds/LM/LMH6732.pdf; ComponentLink2Description: LMH6732 Web Page; ComponentLink2URL: http://www.national.com/pf/LM/LMH6732.html; ComponentLink3Description: M08A Package Page; ComponentLink3URL: http://www.national.com/packaging/folders/m08a.html
footprint M08A_N (SOIC, 8-Leads, Body 4.9x3.9mm, Pitch 1.27mm, IPC Medium Density)
footprint M08A_L (SOIC, 8-Leads, Body 4.9x3.9mm, Pitch 1.27mm, IPC High Density)
footprint M08A_M (SOIC, 8-Leads, Body 4.9x3.9mm, Pitch 1.27mm, IPC Low Density)
pins: 1 NC, 2 IN- (in), 3 IN+ (in), 4 V- (power), 5 NC, 6 OUT (out), 7 V+ (power), 8 RP

## LMH6732MF
designator U?
High Speed Op Amp with Adjustable Bandwidth; PartNumber: LMH6732MF; Manufacturer: National Semiconductor; CompType: Amplifiers; PackageTopMarking: A97A*XTT; Published: 4-Dec-2008; DatasheetVersion: Mar-2004; PackageVersion: revC, Sep-2005; PackageReference: MF06A; Publisher: Altium Limited; PackageDescription: Molded SOT-23, .115 x .063 x .040in Body, 6 Lead, .0375in in Pitch; RoHS: Y; PinCount: 6; DigiKeyPartNumber: LMH6732MFCT-ND; Code_JEDEC: MO-178-AB; Code_IPC: SOT26A-6; ComponentLink1Description: LMH6732 Datasheet; ComponentLink1URL: http://www.national.com/ds/LM/LMH6732.pdf; ComponentLink2Description: LMH6732 Web Page; ComponentLink2URL: http://www.national.com/pf/LM/LMH6732.html; ComponentLink3Description: MF06A Package Page; ComponentLink3URL: http://www.national.com/packaging/folders/mf06a.html
footprint MF06A_N (SOT23, 6-Leads, Body 2.9x1.6mm, Pitch 0.95mm, Lead Span 2.8mm, IPC Medium Density)
footprint MF06A_L (SOT23, 6-Leads, Body 2.9x1.6mm, Pitch 0.95mm, Lead Span 2.8mm, IPC High Density)
footprint MF06A_M (SOT23, 6-Leads, Body 2.9x1.6mm, Pitch 0.95mm, Lead Span 2.8mm, IPC Low Density)
pins: 1 OUT (out), 2 V- (power), 3 IN+ (in), 4 IN- (in), 5 RP, 6 V+ (power)

## LMH6733MQ
designator U?
Single Supply, 1.0 GHz, Triple Operational  Amplifier; PartNumber: LMH6733MQ; Manufacturer: National Semiconductor; CompType: Amplifiers; PackageTopMarking: NSXYTT*LH67*33MQ; Published: 4-Dec-2008; LatestRevisionDate: 13-Jan-2009; LatestRevisionNote: Sim Model Added.; DatasheetVersion: Jan-2007; PackageVersion: revB, Jan-2005; PackageReference: MQA16; Publisher: Altium Limited; PackageDescription: SSOP, .150in Body Width, .025in Pitch, 16 Lead; RoHS: Y; PinCount: 16; DigiKeyPartNumber: LMH6733MQ-ND; Code_JEDEC: MO-137-AB; ComponentLink1Description: LMH6733 Datasheet; ComponentLink1URL: http://www.national.com/ds/LM/LMH6733.pdf; ComponentLink2Description: LMH6733 Web Page; ComponentLink2URL: http://www.national.com/pf/LM/LMH6733.html; ComponentLink3Description: MQA16 Package Page; ComponentLink3URL: http://www.national.com/packaging/folders/mqa16.html
footprint MQA16_N (SOP, 16-Leads, Body 4.9x3.9mm, Pitch 0.635mm, IPC Medium Density)
footprint MQA16_L (SOP, 16-Leads, Body 4.9x3.9mm, Pitch 0.635mm, IPC High Density)
footprint MQA16_M (SOP, 16-Leads, Body 4.9x3.9mm, Pitch 0.635mm, IPC Low Density)
simulation model LMH6733 (SUBCKT)
pins on every part: 9 VS- (power), 11 VS+ (power), 13 VS- (power), 15 VS+ (power)
part A pins: 1 INA- (in), 2 INA+ (in), 14 OUTA (out), 16 ~{DIS A}
part B pins: 3 ~{DIS B}, 4 INB- (in), 5 INB+ (in), 12 OUTB (out)
part C pins: 6 ~{DIS C}, 7 INC- (in), 8 INC+ (in), 10 OUTC (out)

## LMH6734MQ
designator U?
Single Supply, Ultra High-Speed, Triple Selectable Gain Buffer; PartNumber: LMH6734MQ; Manufacturer: National Semiconductor; CompType: Amplifiers; PackageTopMarking: NSXYTT*LH67*34MQ; Published: 4-Dec-2008; DatasheetVersion: Sep-2007; PackageVersion: revB, Jan-2005; PackageReference: MQA16; Publisher: Altium Limited; PackageDescription: SSOP, .150in Body Width, .025in Pitch, 16 Lead; RoHS: Y; PinCount: 16; DigiKeyPartNumber: LMH6734MQ-ND; Code_JEDEC: MO-137-AB; ComponentLink1Description: LMH6734 Datasheet; ComponentLink1URL: http://www.national.com/ds/LM/LMH6734.pdf; ComponentLink2Description: LMH6734 Web Page; ComponentLink2URL: http://www.national.com/pf/LM/LMH6734.html; ComponentLink3Description: MQA16 Package Page; ComponentLink3URL: http://www.national.com/packaging/folders/mqa16.html
footprint MQA16_N (SOP, 16-Leads, Body 4.9x3.9mm, Pitch 0.635mm, IPC Medium Density)
footprint MQA16_L (SOP, 16-Leads, Body 4.9x3.9mm, Pitch 0.635mm, IPC High Density)
footprint MQA16_M (SOP, 16-Leads, Body 4.9x3.9mm, Pitch 0.635mm, IPC Low Density)
pins on every part: 9 VS- (power), 11 VS+ (power), 13 VS- (power), 15 VS+ (power)
part A pins: 1 INA- (in), 2 INA+ (in), 14 OUTA (out), 16 ~{DIS A}
part B pins: 3 ~{DIS B}, 4 INB- (in), 5 INB+ (in), 12 OUTB (out)
part C pins: 6 ~{DIS C}, 7 INC- (in), 8 INC+ (in), 10 OUTC (out)

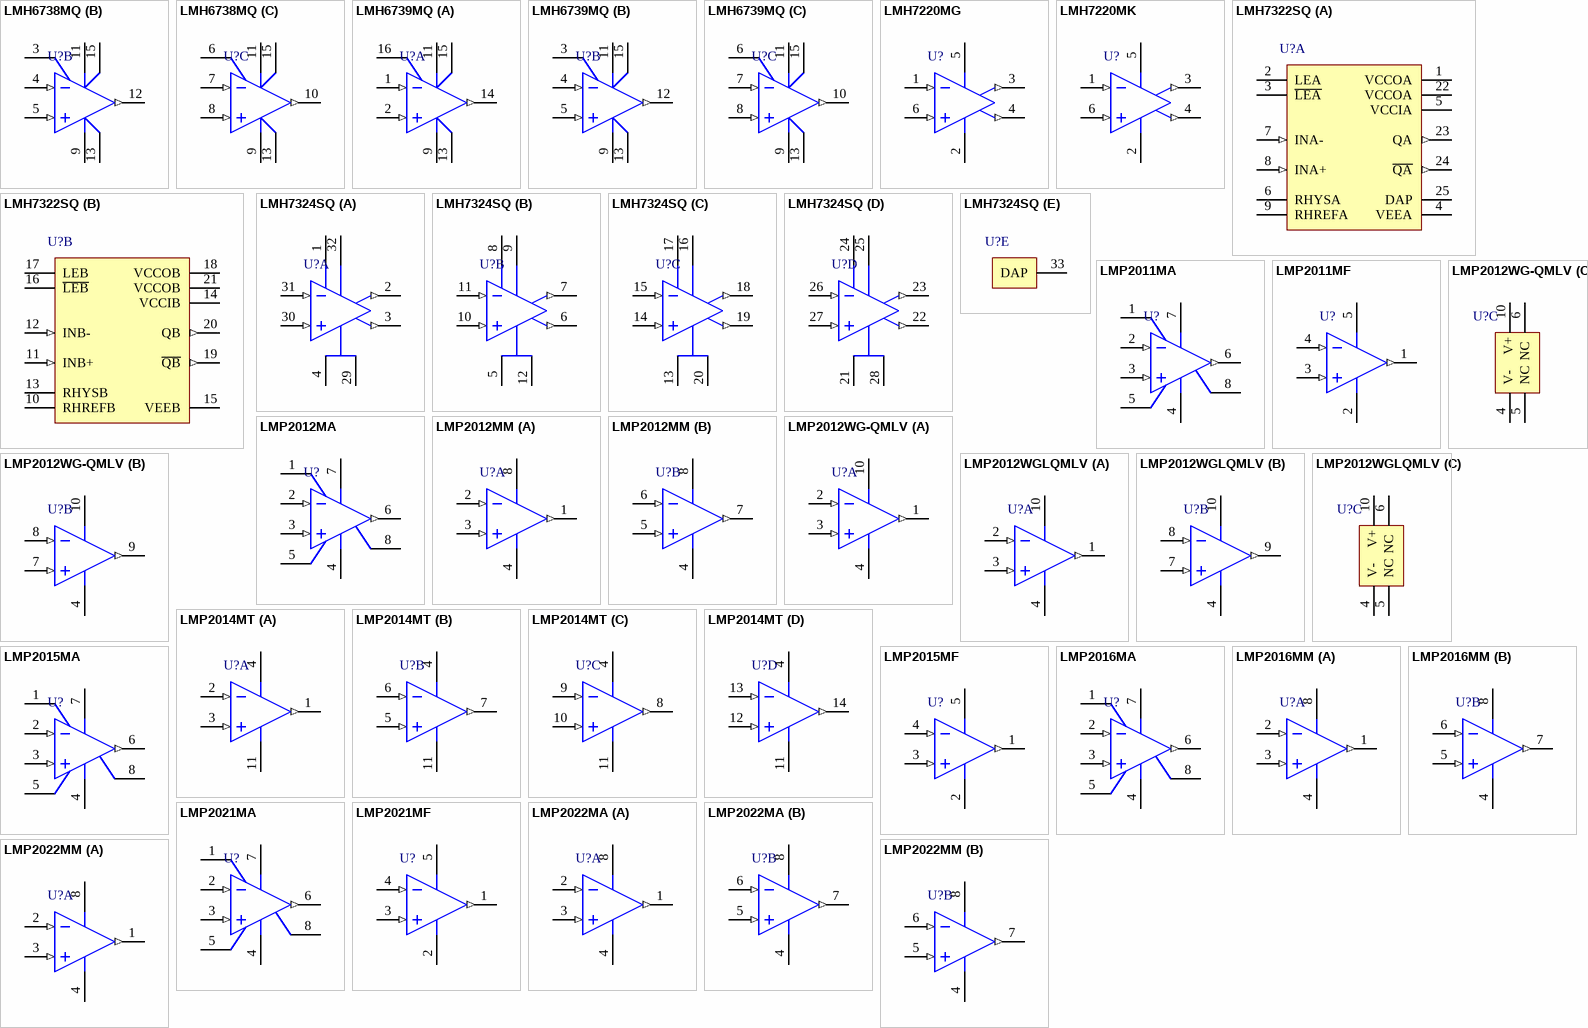
[diagram p29: symbols LMH6738MQ to LMP2022MM]

## LMH6738MQ
designator U?
Very Wideband, Low Distortion Triple Op Amp; PartNumber: LMH6738MQ; Manufacturer: National Semiconductor; CompType: Amplifiers; PackageTopMarking: NSXYTT*LH67*38MQ; Published: 4-Dec-2008; LatestRevisionDate: 13-Jan-2009; LatestRevisionNote: Sim Model Added.; DatasheetVersion: Apr-2006; PackageVersion: revB, Jan-2005; PackageReference: MQA16; Publisher: Altium Limited; PackageDescription: SSOP, .150in Body Width, .025in Pitch, 16 Lead; RoHS: Y; PinCount: 16; DigiKeyPartNumber: LMH6738MQ-ND; Code_JEDEC: MO-137-AB; ComponentLink1Description: LMH6738 Datasheet; ComponentLink1URL: http://www.national.com/ds/LM/LMH6738.pdf; ComponentLink2Description: LMH6738 Web Page; ComponentLink2URL: http://www.national.com/pf/LM/LMH6738.html; ComponentLink3Description: MQA16 Package Page; ComponentLink3URL: http://www.national.com/packaging/folders/mqa16.html
footprint MQA16_N (SOP, 16-Leads, Body 4.9x3.9mm, Pitch 0.635mm, IPC Medium Density)
footprint MQA16_L (SOP, 16-Leads, Body 4.9x3.9mm, Pitch 0.635mm, IPC High Density)
footprint MQA16_M (SOP, 16-Leads, Body 4.9x3.9mm, Pitch 0.635mm, IPC Low Density)
simulation model LMH6738 (SUBCKT)
pins on every part: 9 VS- (power), 11 VS+ (power), 13 VS- (power), 15 VS+ (power)
part A pins: 1 INA- (in), 2 INA+ (in), 14 OUTA (out), 16 ~{DIS A}
part B pins: 3 ~{DIS B}, 4 INB- (in), 5 INB+ (in), 12 OUTB (out)
part C pins: 6 ~{DIS C}, 7 INC- (in), 8 INC+ (in), 10 OUTC (out)

## LMH6739MQ
designator U?
Very Wideband, Low Distortion Triple Video Buffer; PartNumber: LMH6739MQ; Manufacturer: National Semiconductor; CompType: Amplifiers; PackageTopMarking: NSXYTT*LH67*39MQ; Published: 4-Dec-2008; LatestRevisionDate: 13-Jan-2009; LatestRevisionNote: Sim Model Added.; DatasheetVersion: Dec-2007; PackageVersion: revB, Jan-2005; PackageReference: MQA16; Publisher: Altium Limited; PackageDescription: SSOP, .150in Body Width, .025in Pitch, 16 Lead; RoHS: O; PinCount: 16; DigiKeyPartNumber: LMH6739MQ-ND; Code_JEDEC: MO-137-AB; ComponentLink1Description: LMH6739 Datasheet; ComponentLink1URL: http://www.national.com/ds/LM/LMH6739.pdf; ComponentLink2Description: LMH6739 Web Page; ComponentLink2URL: http://www.national.com/pf/LM/LMH6739.html; ComponentLink3Description: MQA16 Package Page; ComponentLink3URL: http://www.national.com/packaging/folders/mqa16.html
footprint MQA16_N (SOP, 16-Leads, Body 4.9x3.9mm, Pitch 0.635mm, IPC Medium Density)
footprint MQA16_L (SOP, 16-Leads, Body 4.9x3.9mm, Pitch 0.635mm, IPC High Density)
footprint MQA16_M (SOP, 16-Leads, Body 4.9x3.9mm, Pitch 0.635mm, IPC Low Density)
simulation model LMH6739 (SUBCKT)
pins on every part: 9 VS- (power), 11 VS+ (power), 13 VS- (power), 15 VS+ (power)
part A pins: 1 INA- (in), 2 INA+ (in), 14 OUTA (out), 16 ~{DIS A}
part B pins: 3 ~{DIS B}, 4 INB- (in), 5 INB+ (in), 12 OUTB (out)
part C pins: 6 ~{DIS C}, 7 INC- (in), 8 INC+ (in), 10 OUTC (out)

## LMH7220MG
designator U?
High Speed Comparator with LVDS Output; PartNumber: LMH7220MG; Manufacturer: National Semiconductor; CompType: Amplifiers; PackageTopMarking: C38*XTT; Published: 4-Dec-2008; DatasheetVersion: May-2008; PackageVersion: revB, Jun-2007; PackageReference: MAA06A; Publisher: Altium Limited; PackageDescription: Molded SC-70, 2 x 1.25 x .9mm, 6 Lead, 0.65mm Pitch; RoHS: Y; PinCount: 6; DigiKeyPartNumber: LMH7220MG-ND; ComponentLink1Description: LMH7220 Datasheet; ComponentLink1URL: http://www.national.com/ds/LM/LMH7220.pdf; ComponentLink2Description: LMH7220 Web Page; ComponentLink2URL: http://www.national.com/pf/LM/LMH7220.html; ComponentLink3Description: MAA06A Package Page; ComponentLink3URL: http://www.national.com/packaging/folders/maa06a.html
footprint MAA06A_N (SOT363, 6-Leads, Body 2x1.3mm, Pitch 0.65mm, Lead Span 2.1mm, IPC Medium Density)
footprint MAA06A_L (SOT363, 6-Leads, Body 2x1.3mm, Pitch 0.65mm, Lead Span 2.1mm, IPC High Density)
footprint MAA06A_M (SOT363, 6-Leads, Body 2x1.3mm, Pitch 0.65mm, Lead Span 2.1mm, IPC Low Density)
pins: 1 IN- (in), 2 GND (power), 3 OUT ~{Q} (out), 4  OUT Q (out), 5 VCC (power), 6 IN+ (in)

## LMH7220MK
designator U?
High Speed Comparator with LVDS Output; PartNumber: LMH7220MK; Manufacturer: National Semiconductor; CompType: Amplifiers; PackageTopMarking: C29A*XTT; Published: 4-Dec-2008; DatasheetVersion: May-2008; PackageVersion: revD, Jul-2005; PackageReference: MK06A; Publisher: Altium Limited; PackageDescription: Molded TSOT, 2.97 x 1.65 x 0.87mm Body, 6 Lead, 0.95mm Pitch; RoHS: Y; PinCount: 6; DigiKeyPartNumber: LMH7220MKCT-ND; Code_JEDEC: MO-193-AA; Code_IPC: SOT26A-6; ComponentLink1Description: LMH7220 Datasheet; ComponentLink1URL: http://www.national.com/ds/LM/LMH7220.pdf; ComponentLink2Description: LMH7220 Web Page; ComponentLink2URL: http://www.national.com/pf/LM/LMH7220.html; ComponentLink3Description: MK06A Package Page; ComponentLink3URL: http://www.national.com/packaging/folders/mk06a.html
footprint MK06A_N (SOT23, 6-Leads, Body 3.0x1.7mm, Pitch 0.95mm, Lead Span 2.9mm, IPC Medium Density)
footprint MK06A_L (SOT23, 6-Leads, Body 3.0x1.7mm, Pitch 0.95mm, Lead Span 2.9mm, IPC High Density)
footprint MK06A_M (SOT23, 6-Leads, Body 3.0x1.7mm, Pitch 0.95mm, Lead Span 2.9mm, IPC Low Density)
pins: 1 IN- (in), 2 GND (power), 3 OUT ~{Q} (out), 4  OUT Q (out), 5 VCC (power), 6 IN+ (in)